# Altium footprint library IM03GR_RELAY.PcbLib: 1 footprints
Each footprint in its own frame and in the unit in brackets; x right, y up, seen from the top. Pads: shape width x height; smd on the part's side, far side on the other; paste and mask are expansions set on the pad; w line width, h text height; cw(c..) or ccw(c..) is an arc to the next point about the centre after c.
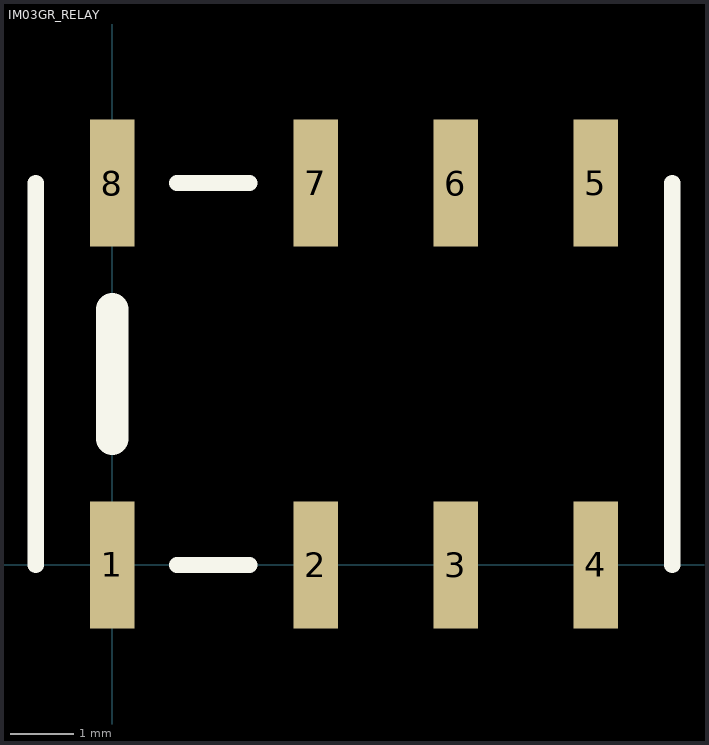
[diagram p0: the footprint, top view; thin cyan lines are the x and y axes]

## IM03GR_RELAY [mm]
pads (8):
  rect 0.7x2 smd: 1(0,0) 2(3.2,0) 3(5.4,0) 4(7.6,0) 5(7.6,6) 6(5.4,6) 7(3.2,6) 8(0,6)
Top Overlay:
  lines w0.254: -1.2,0 -1.2,6 ; 1.016,0 2.159,0 ; 1.016,6 2.159,6 ; 8.8,0 8.8,6
  lines w0.508: 0,1.984 0,4.016
3D body: height 5.65, standoff 0, extent -1.2,-0.758 8.8,6.758